# Altium schematic symbol library Version3.SCHLIB: 40 symbols
Pins are listed as number, name and electrical type; pins without a type are passive.

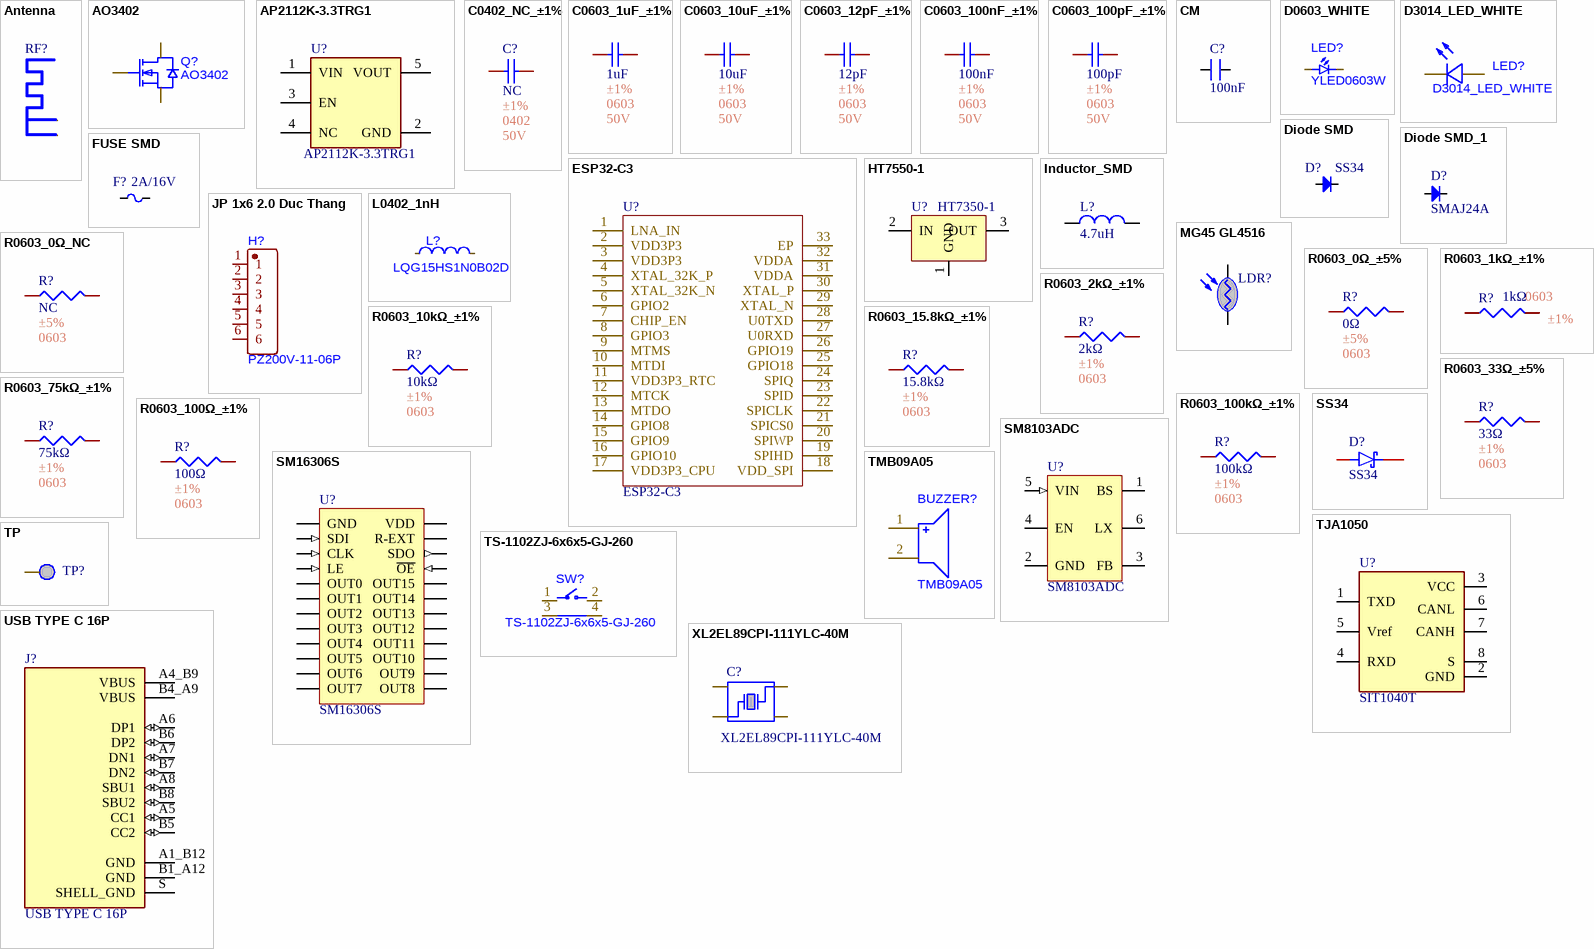
[diagram p0: symbols Antenna to XL2EL89CPI-111YLC-40M]

## Antenna
designator RF?
footprint 2.4GHZ-50OHMS_v1.1
pins: 1, 2

## AO3402
designator Q?
MOSFET N-CH 30V SOT-23; Manufacturer: AOS; MPN: AO3402; LCSC Part #: C14385; Packaging: SOT-23; Link: https://www.lcsc.com/product-detail/C14385.html?s_z=n_q_ao3402&spm=wm.fly.bg.0.xh&lcsc_vid=FFlaVlZURFlbX1EAE1lbUlZfQwdeBlBRQ1VZBFdQQwUxVlNeRVNeVV1ST1RZVzsOAxUeFF5JWBYZEEoKFBINSQcJGk4NBhADEA4cHktTRk8GEwkK
footprint AO3402 (MOSFET N-CH 30V SOT-23)
pins: 1 G, 2 S, 3 D

## AP2112K-3.3TRG1
designator U?
Linear Voltage Regulator IC Positive Fixed 1 Output 600mA SOT23-5; MF: Diodes Inc.; Value: *; Purchase-URL: https://pricing.snapeda.com/search/part/AP2112K-3.3TRG1/?ref=eda; Package: SOT-753 Diodes Inc.; Availability: In Stock; Check_prices: https://www.snapeda.com/parts/AP2112K-3.3TRG1/Diodes+Inc./view-part/?ref=eda; Price: None; SnapEDA_Link: https://www.snapeda.com/parts/AP2112K-3.3TRG1/Diodes+Inc./view-part/?ref=snap; MP: AP2112K-3.3TRG1
footprint SOT23-5 (SOT23, 5-Leads, Body 3.0x3.0mm (max), Pitch 0.95mm, IPC Medium Density)
pins: 1 VIN (power), 2 GND (power), 3 EN, 4 NC, 5 VOUT (power)

## C0402_NC_±1%
designator C?, comment NC  Tolerance: ±1%  Package: 0402  Voltage Rating: 50V
Manufacturer: YAGEO; Mfr. Part #: CC0402FRNPO9BN100; Capacitance: 1uF; LCSC Part #: C513681; Link: https://www.lcsc.com/product-detail/C513681.html?s_z=n_capital%2520yageo%252010pF%25200402
footprint C0402
pins: 1, 2

## C0603_1uF_±1%
designator C?, comment 1uF  Tolerance: ±1%  Package: 0603  Voltage Rating: 50V
50V 10pF NP0 ±1% 0402 Multilayer Ceramic Capacitors MLCC - SMD/SMT ROHS; Manufacturer: YAGEO; Mfr. Part #: CC0402FRNPO9BN100; LCSC Part #: C513681; Link: https://www.lcsc.com/product-detail/C513681.html?s_z=n_capital%2520yageo%252010pF%25200402; Capacitance: 1uF
footprint Model Name (Model Description)
footprint C0603
pins: 1, 2

## C0603_10uF_±1%
designator C?, comment 10uF  Tolerance: ±1%  Package: 0603  Voltage Rating: 50V
50V 10pF NP0 ±1% 0402 Multilayer Ceramic Capacitors MLCC - SMD/SMT ROHS; Manufacturer: YAGEO; Mfr. Part #: CC0402FRNPO9BN100; LCSC Part #: C513681; Link: https://www.lcsc.com/product-detail/C513681.html?s_z=n_capital%2520yageo%252010pF%25200402; Capacitance: 10uF
footprint C0603
pins: 1, 2

## C0603_12pF_±1%
designator C?, comment 12pF  Tolerance: ±1%  Package: 0603  Voltage Rating: 50V
50V 10pF NP0 ±1% 0402 Multilayer Ceramic Capacitors MLCC - SMD/SMT ROHS; Manufacturer: YAGEO; Mfr. Part #: CC0402FRNPO9BN100; LCSC Part #: C513681; Link: https://www.lcsc.com/product-detail/C513681.html?s_z=n_capital%2520yageo%252010pF%25200402; Capacitance: 12pF
footprint C0603
pins: 1, 2

## C0603_100nF_±1%
designator C?, comment 100nF  Tolerance: ±1%  Package: 0603  Voltage Rating: 50V
50V 10pF NP0 ±1% 0402 Multilayer Ceramic Capacitors MLCC - SMD/SMT ROHS; Manufacturer: YAGEO; Mfr. Part #: CC0402FRNPO9BN100; LCSC Part #: C513681; Link: https://www.lcsc.com/product-detail/C513681.html?s_z=n_capital%2520yageo%252010pF%25200402; Capacitance: 100nF
footprint C0603
pins: 1, 2

## C0603_100pF_±1%
designator C?, comment 100pF  Tolerance: ±1%  Package: 0603  Voltage Rating: 50V
Manufacturer: YAGEO; Mfr. Part #: CC0402FRNPO9BN100; LCSC Part #: C513681; Link: https://www.lcsc.com/product-detail/C513681.html?s_z=n_capital%2520yageo%252010pF%25200402; Capacitance: 100pF
footprint C0603
pins: 1, 2

## CM
designator C?, comment 100nF
Cap SMD; Value: 103
footprint SM-0805 (Compoment SMD 80x50mil)
footprint C-0603 (Chip Capacitor; Body 1.6 x 0.8 mm (LxW typ))
footprint CAP-1206
footprint C-SMD-0402
pins: 1, 2

## D0603_WHITE
designator LED?, comment YLED0603W
LED WHITE YELLOW LENS 0603 SMD; Manufacturer: YONGYUTAI; MPN: YLED0603W; LCSC Part #: C19273150; Packaging: 0603; Link: https://www.lcsc.com/product-detail/C19273150.html?s_z=n_q_led%25200603%2520white&spm=wm.fly.bg.0.xh&lcsc_vid=FFlaVlZURFlbX1EAE1lbUlZfQwdeBlBRQ1VZBFdQQwUxVlNeR1FfUFxXT1RZVjsOAxUeFF5JWBYZEEoKFBINSQcJGk4dAgUUFAk%3D
footprint LED0603
pins: 1, 2

## D3014_LED_WHITE
designator LED?
LED WHITE FROSTED YELLOW LENS SMD; Manufacturer: HONGLITRONIC; MPN: HL-A-3014H421W-S1-08HL-HR3; LCSC Part #: C210342; Packaging: SMD3014-2P; Link: https://www.lcsc.com/product-detail/C210342.html?s_z=n_q_t_3014%2520led%2520&spm=wm.fly.bg.0.xh___wm.ssy.tc.1.tz&lcsc_vid=FFlaVlZURFlbX1EAE1lbUlZfQwdeBlBRQ1VZBFdQQwUxVlNeRFVXUVVXRFdYVDsOAxUeFF5JWBYZEEoKFBINSQcJGk4NBhADEA4cHktSRlRADxALGw%3D%3D
footprint D3014_LED_WHITE (LED WHITE FROSTED YELLOW LENS SMD)
pins: 1, 2

## Diode SMD
designator D?, comment SS34
Code - JEDEC: DO-214-AB; Value: 1N5007; Published: 8-Jun-2000; Revision: July-2002: Re-released for DXP Platform.; Publisher: Altium Limited
footprint DIO-SMD-106
footprint DIO-SMD-123
footprint DIO-SMD-A
footprint DIO-SMD-B (Magnetic-Core Inductor with Winding Polarity Marking; 2 Leads)
footprint DIO-SMD-216AA (DO216AA ST-MITE)
footprint DIO-SMD-222AA (DO216AA ST-MITE)
footprint DO-214AA
footprint SOD-323
footprint SOD-123
pins: 1 A, 2 K

## Diode SMD_1
designator D?, comment SMAJ24A
Code - JEDEC: DO-214-AB; Value: 1N5007; Published: 8-Jun-2000; Revision: July-2002: Re-released for DXP Platform.; Publisher: Altium Limited
footprint DIO-SMD-106
footprint DIO-SMD-123
footprint DIO-SMD-A
footprint DIO-SMD-B (Magnetic-Core Inductor with Winding Polarity Marking; 2 Leads)
footprint DIO-SMD-216AA (DO216AA ST-MITE)
footprint DIO-SMD-222AA (DO216AA ST-MITE)
footprint DO-214AA
footprint SOD-323
footprint SOD-123
pins: 1 A, 2 K

## ESP32-C3
designator U?
Others 160MHz QFN-32-EP(5x5) RF Transceiver Modules and Modems RoHS; Manufacturer: ESPRESSIF; LCSC Part #: C2838500; Package: QFN-32-EP(5x5); Link: https://www.lcsc.com/product-detail/C2838500.html?s_z=n_ESP32%2520C3; MPN: ESP32-C3
footprint ESP32-C3 (Others 160MHz QFN-32-EP(5x5) RF Transceiver Modules and Modems RoHS)
pins: 1 LNA_IN, 2 VDD3P3, 3 VDD3P3, 4 XTAL_32K_P, 5 XTAL_32K_N, 6 GPIO2, 7 CHIP_EN, 8 GPIO3, 9 MTMS, 10 MTDI, 11 VDD3P3_RTC, 12 MTCK, 13 MTDO, 14 GPIO8, 15 GPIO9, 16 GPIO10, 17 VDD3P3_CPU, 18 VDD_SPI, 19 SPIHD, 20 SPIWP, 21 SPICS0, 22 SPICLK, 23 SPID, 24 SPIQ, 25 GPIO18, 26 GPIO19, 27 U0RXD, 28 U0TXD, 29 XTAL_N, 30 XTAL_P, 31 VDDA, 32 VDDA, 33 EP

## FUSE SMD
designator F?, comment 2A/16V
Polymeric PTC Resettable Fuse 60V 200mA Ih Surface Mount 1812 (4532 Metric), Concave; MF: Bourns; MP: MF-MSMF020/60-2; Purchase-URL: https://pricing.snapeda.com/search/part/MF-MSMF020/60-2/?ref=eda; Value: *; Package: 1812 Bourns; Check_prices: https://www.snapeda.com/parts/MF-MSMF020/60-2/Bourns/view-part/?ref=eda; Price: None; Availability: In Stock; SnapEDA_Link: https://www.snapeda.com/parts/MF-MSMF020/60-2/Bourns/view-part/?ref=snap
footprint FUSE_SMD_1812
footprint FUSE_SMD_1206
footprint FUSE_SMD_1808 with Base
footprint FUSE_SMD_0805
pins: 1, 2

## HT7550-1
designator U?, comment HT7350-1
Voltage stabiliser; LDO, fixed; 5V; 0.1A; SOT89; SMD
footprint SOT89
pins: 1 GND, 2 IN, 3 OUT

## Inductor_SMD
designator L?, comment 4.7uH
Inductor; Value: 150 mH
footprint INDUCTOR_SMD_10X10mm
footprint Inductor_SMD_12X12mm
footprint INDUCTOR_SMD_7.6X7.6MM
footprint INDUCTOR_SMD_4X4MM
footprint INDUCTOR_SMD_7X7MM
footprint INDUCTOR_SMD_5x5mm_5030
pins: 1, 2

## JP 1x6 2.0 Duc Thang
designator H?, comment PZ200V-11-06P
CONN HEADER 6POS 2mm SINGLE ROW TH; Manufacturer: XFCN; MPN: PZ200V-11-06P; LCSC Part #: C541860; Packaging: Through Hole,P=2mm; Link: https://www.lcsc.com/product-detail/C541860.html?s_z=n_q_t_pin%2520header%25206%2520position&spm=wm.fly.bg.4.xh___wm.ssy.tc.0.tz&lcsc_vid=FFlaVlZURFlbX1EAE1lbUlZfQwdeBlBRQ1VZBFdQQwUxVlNeR1RZVlRQQ1JdXjsOAxUeFF5JWBYZEEoKFBINSQcJGk4NBhADEA4cHktRTlVADxALGw%3D%3D
footprint HDR-TH_6P-P2.00-V-M
pins: 1, 2, 3, 4, 5, 6

## L0402_1nH
designator L?, comment LQG15HS1N0B02D
FIXED IND 1nH 1A 70mΩ 0402; Manufacturer: muRata; MPN: LQG15HS1N0B02D; LCSC Part #: C162538; Packaging: 0402; Link: https://www.lcsc.com/product-detail/C162538.html?s_z=n_q_0402%2520inductor%25201nH&spm=wm.fly.bg.1.xh&lcsc_vid=FFlaVlZURFlbX1EAE1lbUlZfQwdeBlBRQ1VZBFdQQwUxVlNeQ1FfVlBVRFlZVjsOAxUeFF5JWBYZEEoKFBINSQcJGk4NBhADEA4cHktXRllfSQwSGg0%3D
footprint L0402_1nH (FIXED IND 1nH 1A 70mO 0402)
pins: 1, 2

## MG45 GL4516
designator LDR?, comment LDR  (value not drawn)
LDR 5K-10K
footprint CDS MG45 GL4516 (4mm)
footprint CDS MG45 GL4516 - Horizontal (4mm)
pins: 1 A, 2 K

## R0603_0Ω_NC
designator R?, comment NC  Tolerance: ±5%  Package: 0603
Manufacturer: YAGEO; Mfr. Part #: RC0603JR-070RL; Key Attributes: RES 0Ω ±5% 100mW 0603; LCSC Part #: C95177; Resistance: NC; Link: https://www.lcsc.com/product-detail/C138066.html?s_z=n_resistor%25200402%252010R
footprint R0603
pins: 1, 2

## R0603_0Ω_±5%
designator R?, comment 0Ω  Tolerance: ±5%  Package: 0603
100mW Thick Film Resistor 75V ±5% 0Ω 0603 Chip Resistor - Surface Mount ROHS; Manufacturer: YAGEO; Mfr. Part #: RC0603JR-070RL; Key Attributes: RES 0Ω ±5% 100mW 0603; LCSC Part #: C95177; Resistance: 0Ω; Link: https://www.lcsc.com/product-detail/C138066.html?s_z=n_resistor%25200402%252010R
footprint R0603
pins: 1, 2

## R0603_1kΩ_±1%
designator R?, comment 1kΩ  Tolerance: ±1%  Package: 0603
62.5mW Thick Film Resistor 50V ±1% ±200ppm/℃ 10Ω 0402 Chip Resistor - Surface Mount ROHS; Manufacturer: YAGEO; Mfr. Part #: RC0402FR-0710RL; LCSC Part #: C138066; Resistance: 1kΩ; Link: https://www.lcsc.com/product-detail/C138066.html?s_z=n_resistor%25200402%252010R
footprint R0603
pins: 1, 2

## R0603_2kΩ_±1%
designator R?, comment 2kΩ  Tolerance: ±1%  Package: 0603
62.5mW Thick Film Resistor 50V ±1% ±200ppm/℃ 10Ω 0402 Chip Resistor - Surface Mount ROHS; Manufacturer: YAGEO; Mfr. Part #: RC0402FR-0710RL; LCSC Part #: C138066; Resistance: 2kΩ; Link: https://www.lcsc.com/product-detail/C138066.html?s_z=n_resistor%25200402%252010R
footprint R0603
pins: 1, 2

## R0603_10kΩ_±1%
designator R?, comment 10kΩ  Tolerance: ±1%  Package: 0603
62.5mW Thick Film Resistor 50V ±1% ±200ppm/℃ 10Ω 0402 Chip Resistor - Surface Mount ROHS; Manufacturer: YAGEO; Mfr. Part #: RC0402FR-0710RL; LCSC Part #: C138066; Resistance: 10kΩ; Link: https://www.lcsc.com/product-detail/C138066.html?s_z=n_resistor%25200402%252010R
footprint R0603
pins: 1, 2

## R0603_15.8kΩ_±1%
designator R?, comment 15.8kΩ  Tolerance: ±1%  Package: 0603
Manufacturer: YAGEO; Mfr. Part #: RC0402FR-0710RL; LCSC Part #: C138066; Resistance: 15.8kΩ; Link: https://www.lcsc.com/product-detail/C138066.html?s_z=n_resistor%25200402%252010R
footprint R0603
pins: 1, 2

## R0603_33Ω_±5%
designator R?, comment 33Ω  Tolerance: ±1%  Package: 0603
100mW Thick Film Resistor 75V ±1% ±200ppm/℃ 2Ω 0603 Chip Resistor - Surface Mount ROHS; Manufacturer: YAGEO; Mfr. Part #: RC0603FR-072RL; Key Attributes: RES 0Ω ±5% 100mW 0603; LCSC Part #: C185341; Resistance: 33Ω; Link: https://www.lcsc.com/product-detail/C185341.html?s_z=n_resistor%2520yageo%25202%25CE%25A9%25200603
footprint R0603
pins: 1, 2

## R0603_75kΩ_±1%
designator R?, comment 75kΩ  Tolerance: ±1%  Package: 0603
Manufacturer: YAGEO; Mfr. Part #: RC0402FR-0710RL; LCSC Part #: C138066; Resistance: 75kΩ; Link: https://www.lcsc.com/product-detail/C138066.html?s_z=n_resistor%25200402%252010R
footprint R0603
pins: 1, 2

## R0603_100kΩ_±1%
designator R?, comment 100kΩ  Tolerance: ±1%  Package: 0603
62.5mW Thick Film Resistor 50V ±1% ±200ppm/℃ 10Ω 0402 Chip Resistor - Surface Mount ROHS; Manufacturer: YAGEO; Mfr. Part #: RC0402FR-0710RL; LCSC Part #: C138066; Resistance: 100kΩ; Link: https://www.lcsc.com/product-detail/C138066.html?s_z=n_resistor%25200402%252010R
footprint R0603
pins: 1, 2

## R0603_100Ω_±1%
designator R?, comment 100Ω  Tolerance: ±1%  Package: 0603
62.5mW Thick Film Resistor 50V ±1% ±200ppm/℃ 10Ω 0402 Chip Resistor - Surface Mount ROHS; Manufacturer: YAGEO; Mfr. Part #: RC0402FR-0710RL; LCSC Part #: C138066; Resistance: 100Ω; Link: https://www.lcsc.com/product-detail/C138066.html?s_z=n_resistor%25200402%252010R
footprint R0603
pins: 1, 2

## SM8103ADC
designator U?
High Efficiency, 3.0A, 18V Input / Synchronous Step Down Regulator
footprint SOT23-6 (SOT23, 5-Leads, Body 3.0x3.0mm (max), Pitch 0.95mm, IPC Medium Density)
pins: 1 BS, 2 GND, 3 FB, 4 EN, 5 VIN (in), 6 LX

## SM16306S
designator U?
footprint QSOP-24
pins: 1 GND, 2 SDI (in), 3 CLK (in), 4 LE (in), 5 OUT0, 6 OUT1, 7 OUT2, 8 OUT3, 9 OUT4, 10 OUT5, 11 OUT6, 12 OUT7, 13 OUT8, 14 OUT9, 15 OUT10, 16 OUT11, 17 OUT12, 18 OUT13, 19 OUT14, 20 OUT15, 21 ~{OE} (in), 22 SDO (out), 23 R-EXT, 24 VDD

## SS34
designator D?
40V Independent 3A 550mV@3A SMA(DO-214AC) Schottky Diodes ROHS; Manufacturer: MDD(Microdiode Semiconductor); Mfr. Part #: SS34; LCSC Part #: C8678; Package: SMA(DO-214AC); Voltage - DC Reverse(Vr): 40V; Current - Rectified: 3A; Link: https://www.lcsc.com/product-detail/C8678.html?s_z=n_SS34
footprint SS34
pins: 1, 2

## TJA1050
designator U?, comment SIT1040T
1/1 Transceiver Half CANbus 8-SO; MF: NXP USA; MP: TJA1050; Package: SOIC-8 NXP USA; Value: *; Availability: Unavailable; SnapEDA_Link: https://www.snapeda.com/parts/TJA1050/NXP%20USA%20Inc./view-part/562764/?ref=snap; Price: None
footprint SO8
pins: 1 TXD, 2 GND, 3 VCC, 4 RXD, 5 Vref, 6 CANL, 7 CANH, 8 S

## TMB09A05
designator BUZZER?
Active Buzzer (Built-in Driving Circuit) 2.7kHz 5V Electromagnetic Through Hole,D9xL5.5mm Alarms, Buzzers, and Sirens RoHS; Manufacturer: XHXDZ; MPN: TMB09A05; LCSC Part #: C49246939; Packaging: Through Hole,D9xL5.5mm; Link: https://www.lcsc.com/product-detail/C49246939.html?s_z=n_q_TMB09A05&spm=wm.fly.bg.0.xh&lcsc_vid=FFlaVlZURFlbX1EAE1lbUlZfQwdeBlBRQ1VZBFdQQwUxVlNeRVNYUlVfR1RXVjsOAxUeFF5JWBYZEEoKFBINSQcJGk4%3D
footprint TMB09A05 (Active Buzzer (Built-in Driving Circuit) 2.7kHz 5V Electromagnetic Through Hole,D9xL5.5mm Alarms, Buzzers, and Sirens RoHS)
pins: 1, 2

## TP
designator TP?  (value not drawn)
footprint TP
pins: 1

## TS-1102ZJ-6x6x5-GJ-260
designator SW?
12V With Bracket 6mm Round Button 7.5mm SPST-NO 50mA Through Hole Tactile Switches RoHS; Manufacturer: CAX; MPN: TS-1102ZJ-6x6x5-GJ-260; LCSC Part #: C53431197; Packaging: Through Hole; Link: https://www.lcsc.com/product-detail/C53431197.html?s_z=n_q_button%25206x6&spm=wm.fly.bg.26.xh&lcsc_vid=FFlaVlZURFlbX1EAE1lbUlZfQwdeBlBRQ1VZBFdQQwUxVlNeRVNZVlReQlNWVzsOAxUeFF5JWBYZEEoKFBINSQcJGk4eFQsCAgIaSgADAwAHC0slQ1hcU1JfRFhADxALGw%3D%3D
footprint TS-1102ZJ-6x6x5-GJ-260 (12V With Bracket 6mm Round Button 7.5mm SPST-NO 50mA Through Hole Tactile Switches RoHS)
pins: 1, 2, 3, 4

## USB TYPE C 16P
designator J?
USB CONN, 2.0 TYPE C, RCPT, 16POS, SMT; USB Connector Type:USB Type C; USB Standard:USB 2.0; Gender:Receptacle; No. of Positions:16Positions; Connector Mounting:Surface Mount, Through Hole Mount; Orientation:Right Angle RoHS Compliant: Yes; MF: Global Connector Technology; MP: USB4105GFA120; SnapEDA_Link: https://www.snapeda.com/parts/USB4105GFA120/Global+Connector+Technology/view-part/?ref=snap; Package: None; Value: *; Check_prices: https://www.snapeda.com/parts/USB4105GFA120/Global+Connector+Technology/view-part/?ref=eda
footprint TYPE_C_16P_1ROW
footprint TYPE C 16P SMD
pins: A1_B12 GND (power), A4_B9 VBUS (power), A5 CC1 (io), A6 DP1 (io), A7 DN1 (io), A8 SBU1 (io), B1_A12 GND (power), B4_A9 VBUS (power), B5 CC2 (io), B6 DP2 (io), B7 DN2 (io), B8 SBU2 (io), S SHELL_GND (power)

## XL2EL89CPI-111YLC-40M
designator C?
Crystal Oscillator 15pF SMD3225-4P Crystals RoHS; Manufacturer: YXC Crystal Oscillators; Mfr. Part #: XL2EL89CPI-111YLC-40M; LCSC Part #: C5444549; Package: SMD3225-4P; Link: https://www.lcsc.com/product-detail/C5444549.html?s_z=n_oscillator; Key Attributes: Crystal Oscillator 15pF SMD3225-4P Crystals RoHS
footprint XL2EL89CPI-111YLC-40M (CRYSTAL 40MHz 15pF SMD)
pins: 1, 2, 3, 4